# Altium footprint library Miscellaneous.PcbLib: 70 footprints (part 3 of 5)
Each footprint in its own frame and in the unit in brackets; x right, y up, seen from the top. Pads: shape width x height; smd on the part's side, far side on the other; paste and mask are expansions set on the pad; w line width, h text height; cw(c..) or ccw(c..) is an arc to the next point about the centre after c.
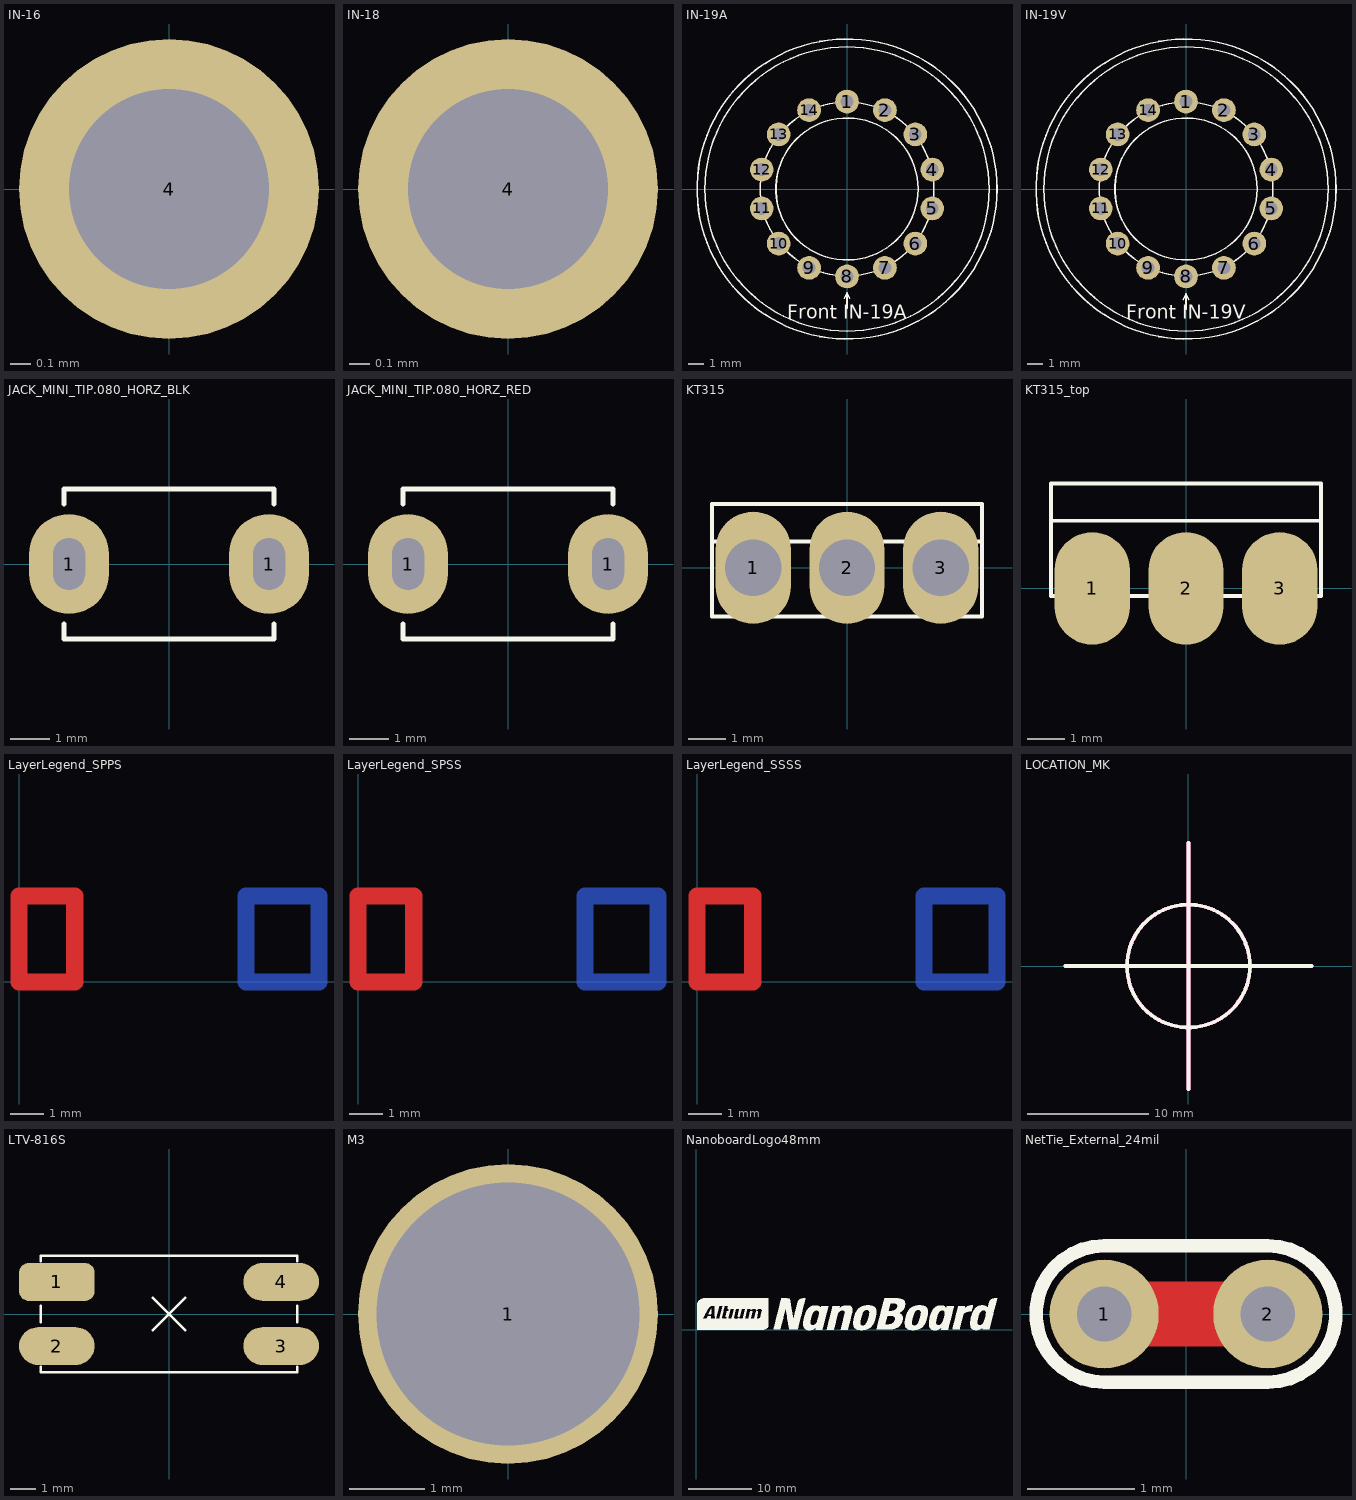
[diagram p2: the footprints below, top view; thin cyan lines are the x and y axes]

## IN-16 [mm]
pads (1):
  round 1.5 hole 1: 4(0,0)

## IN-18 [mm]
pads (1):
  round 1.5 hole 1: 4(0,0)
3D body "User Library-in-18.step": height 75, standoff -11, extent -16,-16 16,16

## IN-19A [mm]
pads (14):
  round 1.5 hole 0.8: 1(0,5.54) 2(2.404,4.991) 3(4.331,3.454) 4(5.401,1.233) 5(5.401,-1.233) 6(4.331,-3.454) 7(2.404,-4.991) 8(0,-5.54) 9(-2.404,-4.991) 10(-4.331,-3.454) 11(-5.401,-1.233) 12(-5.401,1.232) 13(-4.332,3.454) 14(-2.404,4.991)
Top Overlay:
  circle w0.1: c0,0 r9
  circle w0.1: c0,0 r9.5
  circle w0.1: c0,0 r5.5
  circle w0.1: c0,0 r4.5
  lines w0.1: -0.176,-6.932 0,-6.58 ; 0,-7.54 0,-6.58 ; 0.176,-6.932 0,-6.58
  text "Front IN-19A" at -3.786,-8.514 h1.5
Bottom Overlay:
  text "nc" at -0.658,7.388 h1.5
  text "k\"grC\"" at -4.872,6.69 h1.5
  text "k\"P\"" at 6.168,-1.197 h1.5
  text "nc" at -6.162,4.737 h1.5
  text "k\"u\"" at -8.46,2.15 h1.5
  text "k\"n\"" at -8.46,-1.198 h1.5
  text "k\"K\"" at -7.078,-4.221 h1.5
  text "nc" at -3.712,-5.995 h1.5
  text "Anode" at -1.913,-6.567 h1.5
  text "nc" at 2.397,-5.994 h1.5
  text "k\"m\"" at 4.6,-4.221 h1.5
  text "k\"M\"" at 6.544,2.27 h1.5
  text "nc" at 4.846,4.738 h1.5
  text "k\"%\"" at 1.722,6.813 h1.5
3D body: height 59.5, standoff 5, extent -9.5,-9.493 9.5,9.493

## IN-19V [mm]
pads (14):
  round 1.5 hole 0.8: 1(0,5.54) 2(2.404,4.991) 3(4.331,3.454) 4(5.401,1.233) 5(5.401,-1.233) 6(4.331,-3.454) 7(2.404,-4.991) 8(0,-5.54) 9(-2.404,-4.991) 10(-4.331,-3.454) 11(-5.401,-1.233) 12(-5.401,1.232) 13(-4.332,3.454) 14(-2.404,4.991)
Top Overlay:
  circle w0.1: c0,0 r4.5
  circle w0.1: c0,0 r5.5
  circle w0.1: c0,0 r9
  circle w0.1: c0,0 r9.5
  lines w0.1: -0.176,-6.996 0,-6.644 ; 0,-7.604 0,-6.644 ; 0.176,-6.996 0,-6.644
  text "Front IN-19V" at -3.78,-8.514 h1.5
Bottom Overlay:
  text "k\"П\"" at 3.977,6.92 h1.5
  text "nc" at 6.162,4.738 h1.5
  text "k\"А/В\"" at 9.741,2.403 h1.5
  text "k\"<\"" at 7.023,-4.221 h1.5
  text "nc" at 3.713,-5.994 h1.5
  text "Anode" at 1.914,-6.567 h1.5
  text "nc" at -2.396,-5.995 h1.5
  text "k\"-\"" at -4.935,-4.221 h1.5
  text "k\">\"" at -6.223,-1.198 h1.5
  text "k\"+\"" at -6.223,2.158 h1.5
  text "nc" at -4.846,4.737 h1.5
  text "k\"~\"" at 8.479,-1.197 h1.5
  text "k\"dB\"" at -1.498,6.815 h1.5
  text "nc" at 0.658,7.388 h1.5
3D body: height 59.5, standoff 5, extent -9.5,-9.493 9.5,9.493

## JACK_MINI_TIP.080_HORZ_BLK [mil] "TIP JACK, MINIATURE HORIZONTAL PC MOUNT FOR .080 DIA PLUG"
height 213
pads (2):
  oval 80x100 hole 32 slot 52 at 90 deg: 1(-100,0) 1(100,0)
Top Overlay:
  lines w5: -105,-60 -105,-75 105,-75 105,-60 ; -105,60 -105,75 105,75 105,60
3D body "TipJack .080 Dia black with plug.STEP": height 224.41, standoff -125, extent -1008.68,-99.89 226.32,99.68

## JACK_MINI_TIP.080_HORZ_RED [mil] "TIP JACK, MINIATURE HORIZONTAL PC MOUNT FOR .080 DIA PLUG"
height 213
pads (2):
  oval 80x100 hole 32 slot 52 at 90 deg: 1(-100,0) 1(100,0)
Top Overlay:
  lines w5: -105,-60 -105,-75 105,-75 105,-60 ; -105,60 -105,75 105,75 105,60
3D body "TipJack .080 Dia red with plug.STEP": height 224.41, standoff -125, extent -1008.68,-99.89 226.32,99.68

## KT315 [mm]
pads (3):
  oval 2x3 hole 1.5: 1(-2.5,0) 2(0,0) 3(2.5,0)
Top Overlay:
  lines w0.1: -3.6,0.7 3.6,0.7 ; -3.6,-1.3 -3.6,1.7 3.6,1.7 3.6,-1.3 -3.6,-1.3
3D body "User Library-KT315 and KT361 mid.STEP": height 5.67, standoff -3.33, extent -3.6,-1.3 3.6,1.7

## KT315_top [mm]
pads (3):
  oval 2x3 smd: 1(-2.5,0) 2(0,0) 3(2.5,0)
Top Overlay:
  lines w0.1: -3.6,1.8 3.6,1.8 ; -3.6,-0.2 3.6,-0.2 3.6,2.8 -3.6,2.8 -3.6,-0.2
3D body "User Library-KT315 and KT361 angle.STEP": height 6.17, standoff 0.07, extent -3.6,-0.958 3.6,2.8

## LayerLegend_SPPS [mil]
Top Layer:
  lines w20: 0,0 65,0 65,100 0,100 0,0
  text "1" at 25,25 h50
Mid-Layer 1:
  rectangle: 10,10 75,90
  rectangle: 160,10 340,90
  text "2" at 100,25 h50
Mid-Layer 2:
  rectangle: 10,10 170,90
  rectangle: 255,10 340,90
  text "3" at 195,25 h50
Bottom Layer:
  lines w20: 265,0 350,0 350,100 265,100 265,0
  text "4" at 290,25 h50

## LayerLegend_SPSS [mil]
Top Layer:
  lines w20: 0,0 0,100 65,100 65,0 0,0
  text "1" at 25,25 h50
Mid-Layer 1:
  rectangle: 160,10 340,90
  rectangle: 10,10 75,90
  text "2" at 100,25 h50
Mid-Layer 2:
  lines w20: 170,0 170,100 255,100 255,0 170,0
  text "3" at 195,25 h50
Bottom Layer:
  lines w20: 265,0 265,100 350,100 350,0 265,0
  text "4" at 290,25 h50

## LayerLegend_SSSS [mil]
Top Layer:
  lines w20: 0,0 0,100 65,100 65,0 0,0
  text "1" at 25,25 h50
Mid-Layer 1:
  lines w20: 75,0 75,100 160,100 160,0 75,0
  text "2" at 100,25 h50
Mid-Layer 2:
  lines w20: 170,0 170,100 255,100 255,0 170,0
  text "3" at 195,25 h50
Bottom Layer:
  lines w20: 265,0 265,100 350,100 350,0 265,0
  text "4" at 290,25 h50

## LOCATION_MK [mil]
Top Layer:
  circle w12: c0,0 r200
  circle w12: c0,0 r200
  lines w12: -400,0 400,0 -400,0 ; 0,-400 0,400 0,-400
Mid-Layer 1:
  circle w12: c0,0 r200
  lines w12: -400,0 400,0 ; 0,-400 0,400
Mid-Layer 14:
  circle w12: c0,0 r200
  lines w12: -400,0 400,0 ; 0,-400 0,400
Bottom Layer:
  circle w12: c0,0 r200
  circle w12: c0,0 r200
  lines w12: -400,0 400,0 -400,0 ; 0,-400 0,400 0,-400
Top Overlay:
  circle w12: c0,0 r200
  circle w12: c0,0 r200
  lines w12: -400,0 400,0 -400,0 ; 0,-400 0,400 0,-400
Bottom Overlay:
  circle w12: c0,0 r200
  circle w12: c0,0 r200
  lines w12: -400,0 400,0 -400,0 ; 0,-400 0,400 0,-400
Top Paste:
  circle w12: c0,0 r200
  circle w12: c0,0 r200
  lines w12: -400,0 400,0 -400,0 ; 0,-400 0,400 0,-400
Bottom Paste:
  circle w12: c0,0 r200
  circle w12: c0,0 r200
  lines w12: -400,0 400,0 -400,0 ; 0,-400 0,400 0,-400
Top Solder:
  circle w12: c0,0 r200
  circle w12: c0,0 r200
  lines w12: -400,0 400,0 -400,0 ; 0,-400 0,400 0,-400
Bottom Solder:
  circle w12: c0,0 r200
  circle w12: c0,0 r200
  lines w12: -400,0 400,0 -400,0 ; 0,-400 0,400 0,-400
Internal Plane 1:
  circle w12: c0,0 r200
  circle w12: c0,0 r200
  lines w12: -400,0 400,0 -400,0 ; 0,-400 0,400 0,-400
Internal Plane 2:
  circle w12: c0,0 r200
  circle w12: c0,0 r200
  lines w12: -400,0 400,0 -400,0 ; 0,-400 0,400 0,-400
Drill Guide:
  circle w12: c0,0 r200
  circle w12: c0,0 r200
  lines w12: -400,0 400,0 -400,0 ; 0,-400 0,400 0,-400
Keep-Out Layer:
  circle w12: c0,0 r200
  circle w12: c0,0 r200
  lines w12: -400,0 400,0 -400,0 ; 0,-400 0,400 0,-400
Mechanical 1:
  circle w12: c0,0 r200
  circle w12: c0,0 r200
  lines w12: -400,0 400,0 -400,0 ; 0,-400 0,400 0,-400
Mechanical 4:
  circle w12: c0,0 r200
  circle w12: c0,0 r200
  lines w12: -400,0 400,0 -400,0 ; 0,-400 0,400 0,-400
Drill Drawing:
  circle w12: c0,0 r200
  circle w12: c0,0 r200
  lines w12: -400,0 400,0 -400,0 ; 0,-400 0,400 0,-400

## LTV-816S [mm] "SOIC, 8-Leads, Body 4.9x3.9mm, Pitch 1.27mm, IPC Low Density"
height 1.76
pads (4):
  rrect50% 3x1.5 smd: 1(-4.445,1.27)
  oval 3x1.5 smd: 2(-4.445,-1.27) 3(4.445,-1.27) 4(4.445,1.27)
Top Overlay:
  lines w0.1: -5.08,-2.1 -5.08,-2.3 5.08,-2.3 5.08,-2.1 ; -5.08,-0.318 -5.08,0.318 ; -5.08,2.1 -5.08,2.3 5.08,2.3 5.08,2.1 ; -0.635,-0.635 0.635,0.635 ; -0.635,0.635 0.635,-0.635 ; 5.08,-0.318 5.08,0.318
3D body "User Library-LTV816S.STEP": height 3.71, standoff -0.03, extent -5.257,-2.182 5.257,2.4

## M3 [mm]
pads (1):
  round 4 hole 3.5: 1(0,0)

## NanoboardLogo48mm [mil]
Top Overlay:
  drawing of 3446 lines, arcs and shapes, not listed

## NetTie_External_24mil [mil]
pads (2):
  round 40 hole 20: 1(-30,0) 2(30,0)
Top Layer:
  lines w24: -30,0 30,0
Top Overlay:
  lines w5: -30,-25 cw(c-30,0) -30,25 30,25 cw(c30,0) 30,-25 -30,-25
Top Solder:
  rectangle: -30,-18 30,18